# Altium footprint library Synthiam-new.PcbLib: 262 footprints (part 6 of 17)
Each footprint in its own frame and in the unit in brackets; x right, y up, seen from the top. Pads: shape width x height; smd on the part's side, far side on the other; paste and mask are expansions set on the pad; w line width, h text height; cw(c..) or ccw(c..) is an arc to the next point about the centre after c.
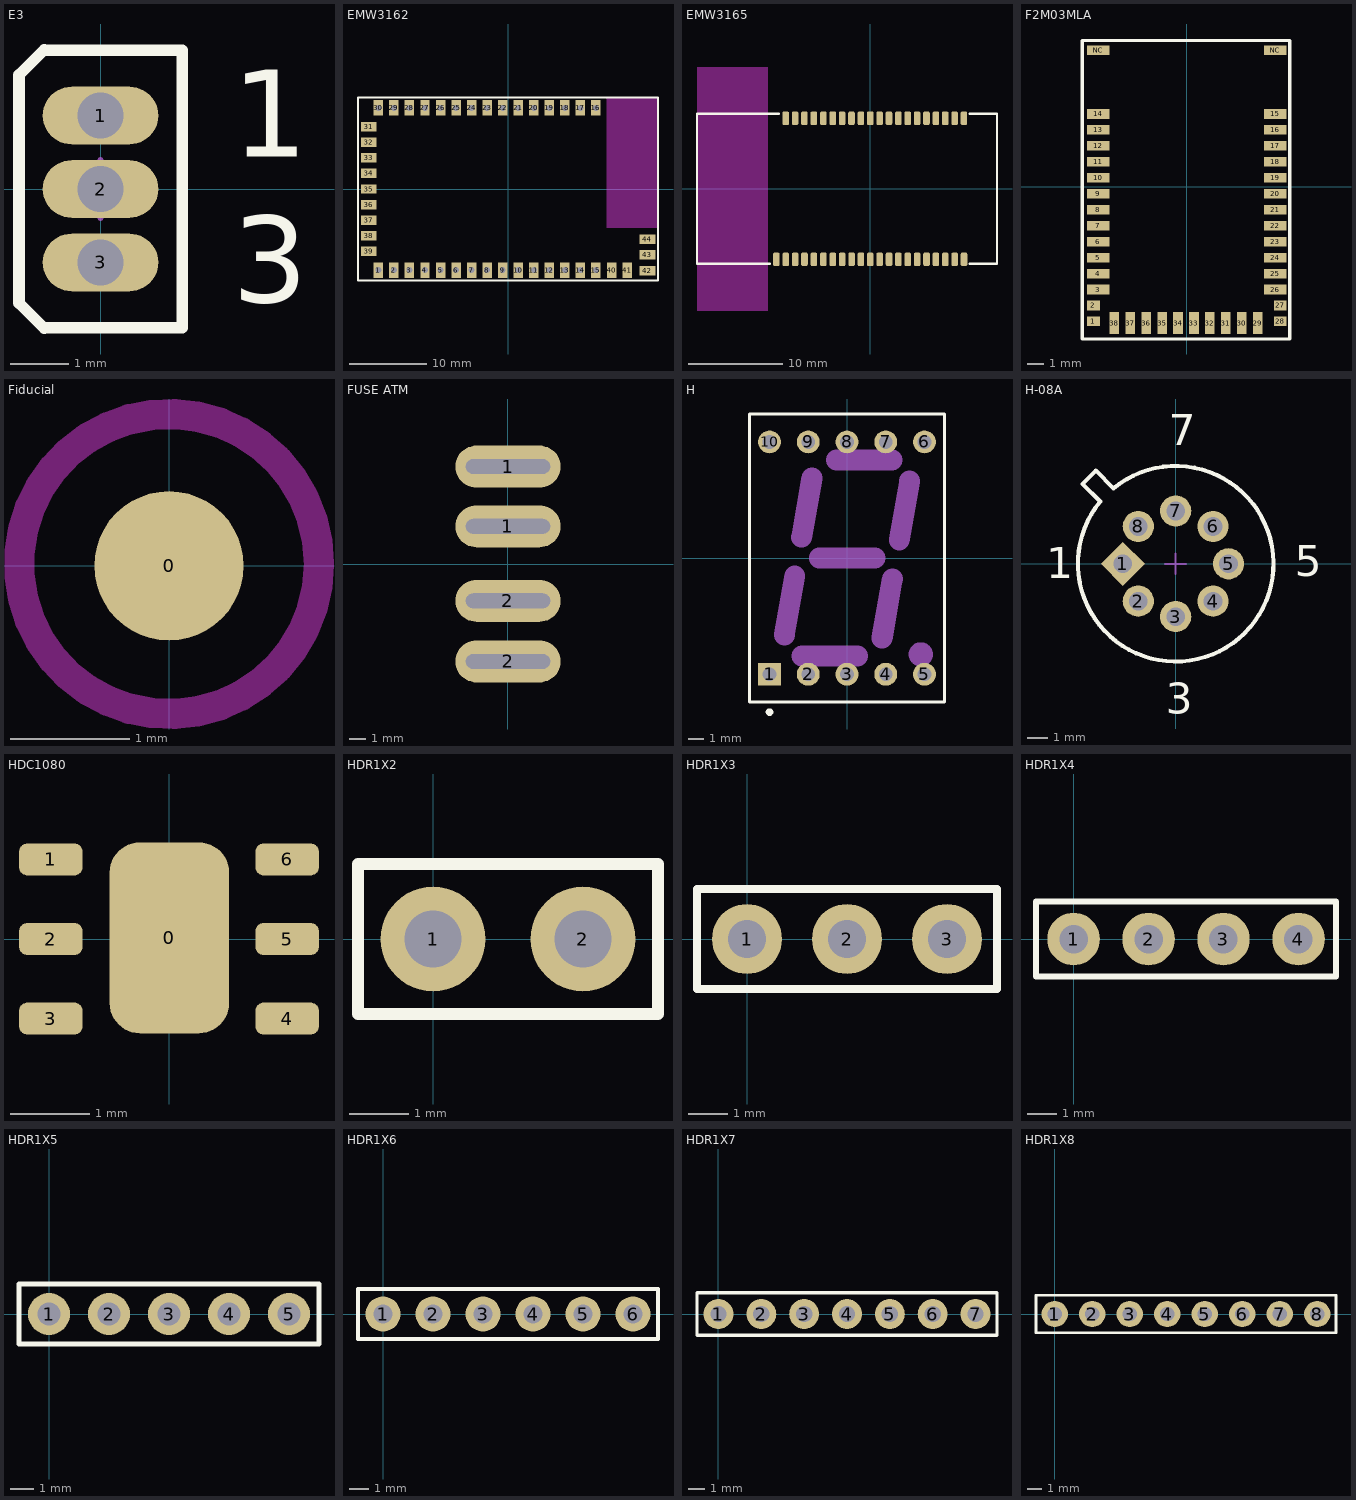
[diagram p5: the footprints below, top view; thin cyan lines are the x and y axes]

## E3 [mm]
pads (3):
  oval 2x1 hole 0.8: 1(0,1.27) 2(0,0) 3(0,-1.27)
Top Overlay:
  lines w0.2: -0.97,-2.41 -1.41,-1.97 -1.41,1.97 -0.97,2.41 ; -0.97,-2.4 1.41,-2.4 1.41,2.4 -0.97,2.4
  text "1" at 2.275,0.555 h1.5
  text "3" at 2.275,-1.963 h1.5
Mechanical 15:
  lines w0.1: -0.5,0 0.5,0 ; 0,-0.5 0,0.5

## EMW3162 [mm]
pads (44):
  rect 1.22x2.03 / inner round 1.524 / far side round 1.524 hole 0.762: 1(-16.69,-10.415) 2(-14.69,-10.415) 3(-12.69,-10.415) 4(-10.69,-10.415) 5(-8.69,-10.415) 6(-6.69,-10.415) 7(-4.69,-10.415) 8(-2.69,-10.415) 9(-0.69,-10.415) 10(1.31,-10.415) 11(3.31,-10.415) 12(5.31,-10.415) 13(7.31,-10.415) 14(9.31,-10.415) 15(11.31,-10.415) 16(11.31,10.465) 17(9.31,10.465) 18(7.31,10.465) 19(5.31,10.465) 20(3.31,10.465) 21(1.31,10.465) 22(-0.69,10.465) 23(-2.69,10.465) 24(-4.69,10.465) 25(-6.69,10.465) 26(-8.69,10.465) 27(-10.69,10.465) 28(-12.69,10.465) 29(-14.69,10.465) 30(-16.69,10.465)
  rect 2.03x1.22 smd: 31(-17.935,8.025) 32(-17.935,6.025) 33(-17.935,4.025) 34(-17.935,2.025) 35(-17.935,0.025) 36(-17.935,-1.975) 37(-17.935,-3.975) 38(-17.935,-5.975) 39(-17.935,-7.975) 42(17.935,-10.465) 43(17.935,-8.465) 44(17.935,-6.465)
  rect 1.22x2.03 smd: 40(13.31,-10.415) 41(15.31,-10.415)
Top Overlay:
  lines w0.254: -19.31,-11.775 -19.31,11.825 19.29,11.825 19.29,-11.775 -19.31,-11.775
Keep-Out Layer:
  rectangle: 12.69,-4.975 19.29,11.825

## EMW3165 [mm]
pads (41):
  rrect50% 0.7x1.45 smd: 1(10.005,7.525) 2(9.005,7.525) 3(8.005,7.525) 4(7.005,7.525) 5(6.005,7.525) 6(5.005,7.525) 7(4.005,7.525) 8(3.005,7.525) 9(2.005,7.525) 10(1.005,7.525) 11(0.005,7.525) 12(-0.995,7.525) 13(-1.995,7.525) 14(-2.995,7.525) 15(-3.995,7.525) 16(-4.995,7.525) 17(-6.015,7.525) 18(-7.015,7.525) 19(-8.015,7.525) 20(-9.015,7.525) 21(-9.01,-7.525) 22(-8.01,-7.525) 23(-7.01,-7.525) 24(-6.01,-7.525) 25(-4.99,-7.525) 26(-3.99,-7.525) 27(-2.99,-7.525) 28(-1.99,-7.525) 29(-0.99,-7.525) 30(0.01,-7.525) 31(1.01,-7.525) 32(2.01,-7.525) 33(3.01,-7.525) 34(4.01,-7.525) 35(5.01,-7.525) 36(6.01,-7.525) 37(7.01,-7.525) 38(8.01,-7.525) 39(9.01,-7.525) 40(10.01,-7.525) 41(-10.01,-7.525)
Top Overlay:
  lines w0.254: -10.721,-8 -18.471,-8 -18.471,8 -9.721,8 ; 10.629,-8 13.529,-8 13.529,8 10.629,8
Keep-Out Layer:
  region: -10.875,12.98 -18.475,12.98 -18.475,-13.02 -10.875,-13.02

## F2M03MLA [mm]
pads (40):
  rect 0.8x0.6 smd: 1(-5.85,-8.45) 2(-5.85,-7.45) 27(5.85,-7.45) 28(5.85,-8.45)
  rect 1.4x0.6 smd: 3(-5.55,-6.45) 4(-5.55,-5.45) 5(-5.55,-4.45) 6(-5.55,-3.45) 7(-5.55,-2.45) 8(-5.55,-1.45) 9(-5.55,-0.45) 10(-5.55,0.55) 11(-5.55,1.55) 12(-5.55,2.55) 13(-5.55,3.55) 14(-5.55,4.55) 15(5.55,4.55) 16(5.55,3.55) 17(5.55,2.55) 18(5.55,1.55) 19(5.55,0.55) 20(5.55,-0.45) 21(5.55,-1.45) 22(5.55,-2.45) 23(5.55,-3.45) 24(5.55,-4.45) 25(5.55,-5.45) 26(5.55,-6.45) NC(-5.55,8.55) NC(5.55,8.55)
  rect 0.6x1.4 smd: 29(4.45,-8.55) 30(3.45,-8.55) 31(2.45,-8.55) 32(1.45,-8.55) 33(0.45,-8.55) 34(-0.55,-8.55) 35(-1.55,-8.55) 36(-2.55,-8.55) 37(-3.55,-8.55) 38(-4.55,-8.55)
Top Overlay:
  lines w0.2: -6.55,-9.55 -6.55,9.15 6.45,9.15 6.45,-9.55 -6.55,-9.55

## Fiducial [mm]
pads (1):
  round 1.25 smd paste-1 mask+0.75: 0(0,0)
Keep-Out Layer:
  circle w0.254: c0,0.015 r1.256

## FUSE ATM [mil]
pads (4):
  oval 250x100 hole 35 slot 200 at 0 deg: 1(0,89.5) 1(0,231.5) 2(0,-87.5) 2(0,-231.5)

## H [mm]
pads (10):
  rect 1.5x1.5 hole 0.9: 1(-5.08,-7.62)
  round 1.5 hole 0.9: 2(-2.54,-7.62) 3(0,-7.62) 4(2.54,-7.62) 5(5.08,-7.62) 6(5.08,7.62) 7(2.54,7.62) 8(0,7.62) 9(-2.54,7.62) 10(-5.08,7.62)
Top Overlay:
  circle w0.25: c-5.08,-10.1 r0.125
  lines w0.2: -6.4,-9.45 -6.4,9.45 6.4,9.45 6.4,-9.45 -6.4,-9.45
Mechanical 1:
  circle w1: c4.842,-6.316 r0.296
  lines w1.37: -4.108,-5.054 -3.425,-1.17 ; -2.974,1.368 -2.293,5.255 ; -2.958,-6.429 0.692,-6.426 ; -1.821,0 1.828,0 ; -0.689,6.425 2.96,6.425 ; 2.295,-5.256 2.98,-1.371 ; 3.427,1.169 4.11,5.058
Mechanical 13:
  lines w0.1: -6.4,-9.45 6.4,-9.45 6.4,9.45 -6.4,9.45 -6.4,-9.45

## H-08A [mm]
pads (8):
  rect 1.5x1.5 hole 0.9 rot 45: 1(-2.54,0)
  round 1.5 hole 0.9: 2(-1.796,-1.796) 3(0,-2.54) 4(1.796,-1.796) 5(2.54,0) 6(1.796,1.796) 7(0,2.54) 8(-1.796,1.796)
Top Overlay:
  lines w0.2: -4.475,3.838 -3.838,4.475 -2.99,3.626 cw(c0,0) -3.626,2.99 -4.475,3.838
  text "1" at -6.22,-0.696 h1.5
  text "3" at -0.469,-7.22 h1.5
  text "5" at 5.712,-0.589 h1.5
  text "7" at -0.332,5.7 h1.5
Mechanical 15:
  lines w0.1: -0.5,0 0.5,0 ; 0,-0.5 0,0.5

## HDC1080 [mm]
pads (7):
  rrect50% 1.5x2.4 smd: 0(0.005,0.015)
  rrect50% 0.8x0.4 smd: 1(-1.485,1) 2(-1.485,0) 3(-1.485,-1) 4(1.485,-1) 5(1.485,0) 6(1.485,1)

## HDR1X2 [mil]
pads (2):
  round 70 hole 38: 1(0,0) 2(100,0)
Top Overlay:
  lines w7.87: -50,-50 -50,50 150,50 150,-50 -50,-50

## HDR1X3 [mil]
pads (3):
  round 70 hole 38: 1(0,0) 2(100,0) 3(200,0)
Top Overlay:
  lines w8: -50,-50 250,-50 250,50 -50,50 -50,-50

## HDR1X4 [mil]
pads (4):
  round 70 hole 38: 1(0,0) 2(100,0) 3(200,0) 4(300,0)
Top Overlay:
  lines w7.87: -50,-50 350,-50 350,50 -50,50 -50,-50

## HDR1X5 [mil]
pads (5):
  round 70 hole 38: 1(0,0) 2(100,0) 3(200,0) 4(300,0) 5(400,0)
Top Overlay:
  lines w8: -50,-50 450,-50 450,50 -50,50 -50,-50

## HDR1X6 [mil]
pads (6):
  round 70 hole 38: 1(0,0) 2(100,0) 3(200,0) 4(300,0) 5(400,0) 6(500,0)
Top Overlay:
  lines w8: -50,-50 -50,50 550,50 550,-50 -50,-50

## HDR1X7 [mil]
pads (7):
  round 70 hole 38: 1(0,0) 2(100,0) 3(200,0) 4(300,0) 5(400,0) 6(500,0) 7(600,0)
Top Overlay:
  lines w8: -50,-50 650,-50 650,50 -50,50 -50,-50

## HDR1X8 [mil]
pads (8):
  round 70 hole 38: 1(0,0) 2(100,0) 3(200,0) 4(300,0) 5(400,0) 6(500,0) 7(600,0) 8(700,0)
Top Overlay:
  lines w7.87: -50,-50 -50,50 750,50 750,-50 -50,-50